# Altium footprint library Buttons.PcbLib: 1 footprints
Each footprint in its own frame and in the unit in brackets; x right, y up, seen from the top. Pads: shape width x height; smd on the part's side, far side on the other; paste and mask are expansions set on the pad; w line width, h text height; cw(c..) or ccw(c..) is an arc to the next point about the centre after c.
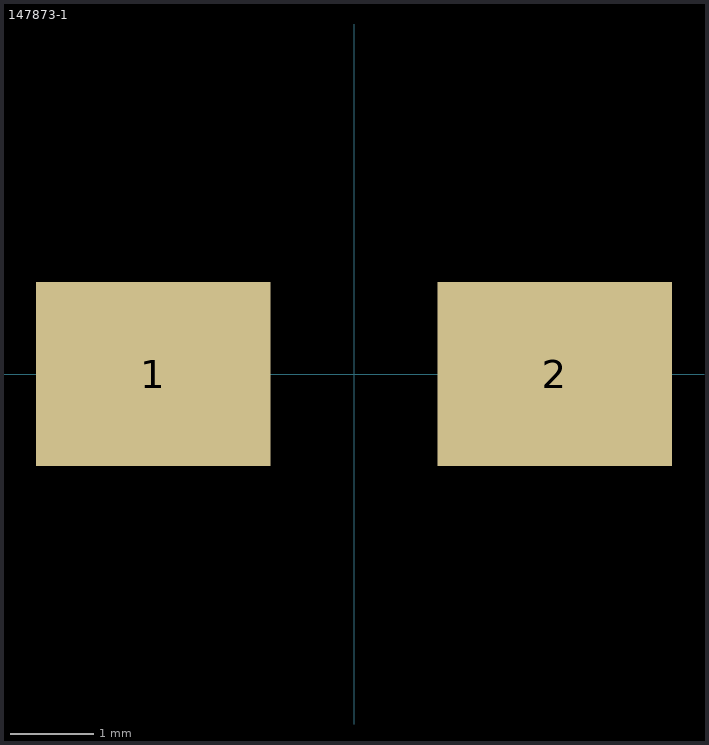
[diagram p0: the footprint, top view; thin cyan lines are the x and y axes]

## 147873-1 [mm] "SPST TE Conectivity push button"
height 5
pads (2):
  rect 2.8x2.2 smd: 1(-2.4,0) 2(2.4,0)
3D body: height 5, standoff 0, extent -3,-1.75 3,1.75